# Altium footprint library Pcb_Library.PcbLib: 28 footprints (part 1 of 2)
Each footprint in its own frame and in the unit in brackets; x right, y up, seen from the top. Pads: shape width x height; smd on the part's side, far side on the other; paste and mask are expansions set on the pad; w line width, h text height; cw(c..) or ccw(c..) is an arc to the next point about the centre after c.
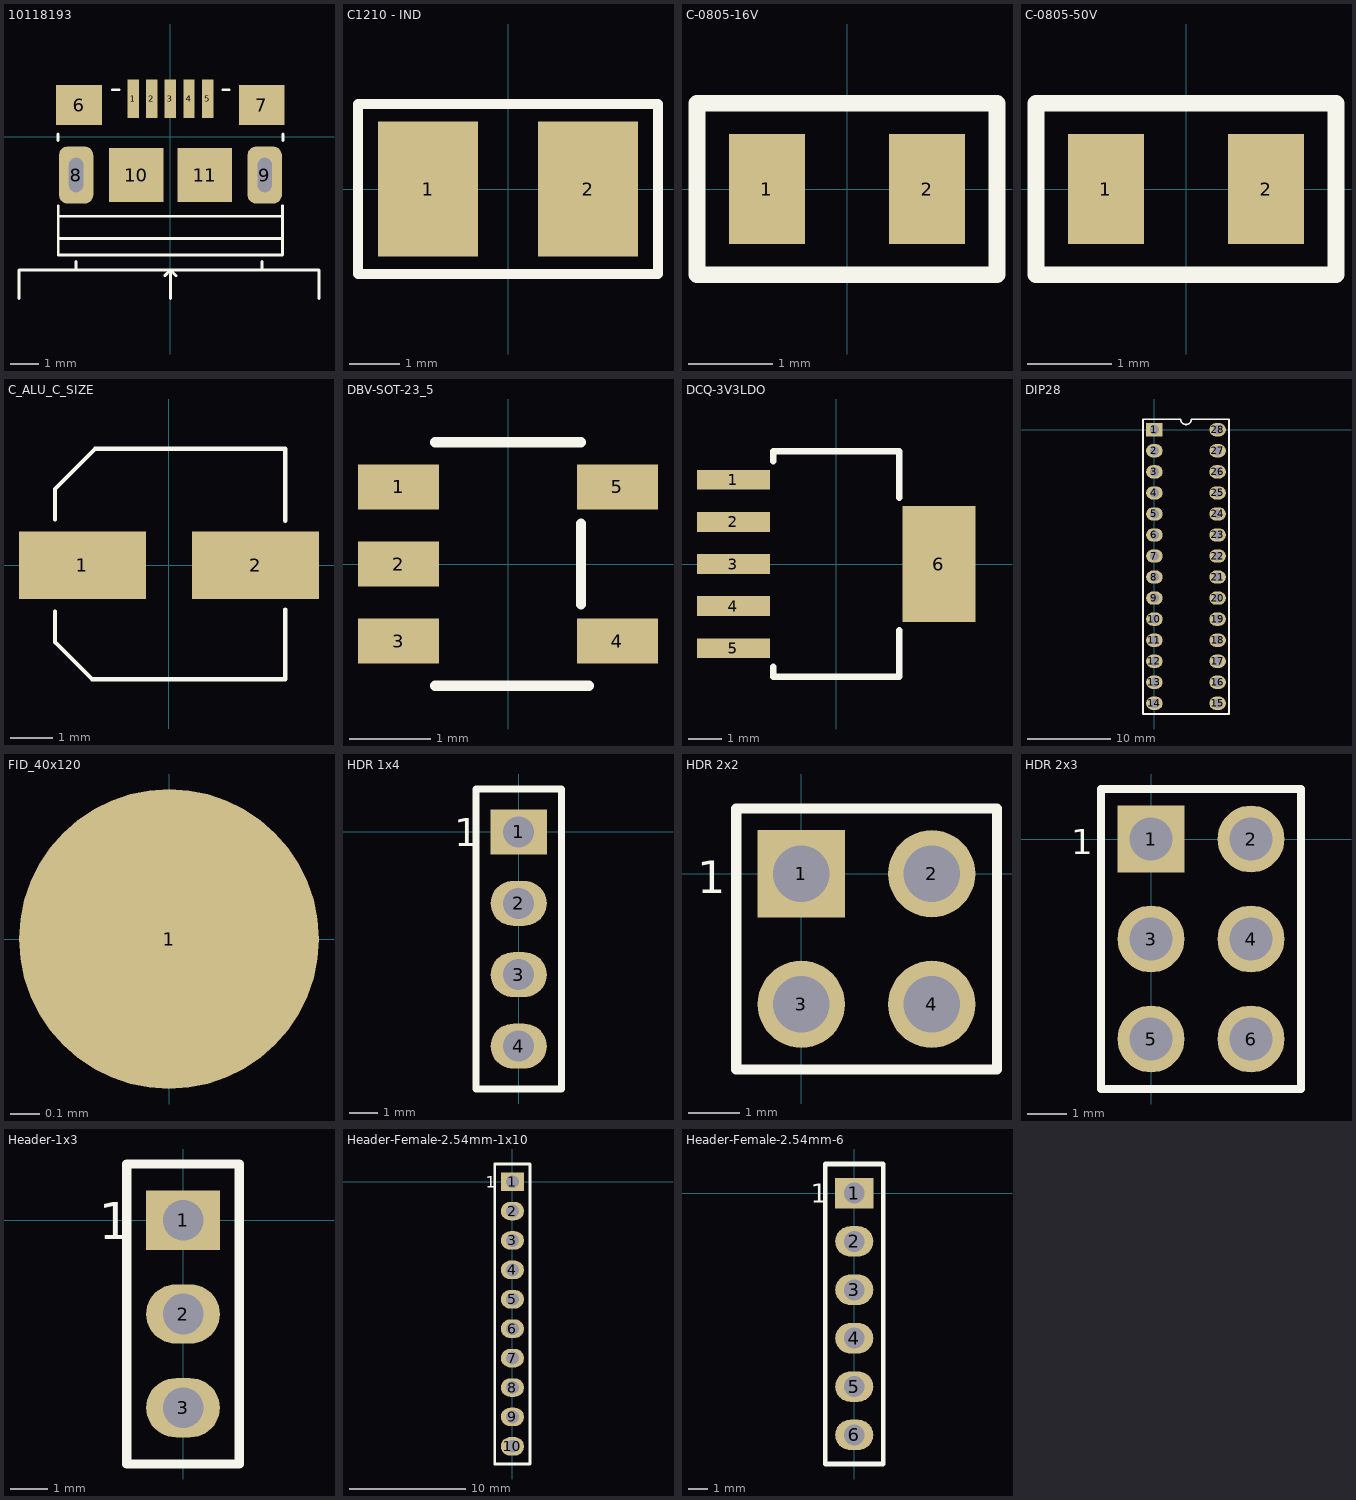
[diagram p0: the footprints below, top view; thin cyan lines are the x and y axes]

## 28-DIP_7.62mm_Socket [mm]
3D body "a_28-lc_7-t.stp": height 4, standoff -4.25, extent -1.38,-34.36 8.78,1.2

## 10118193 [mm]
pads (11):
  rect 0.4x1.35 smd mask+0.05: 1(-1.3,1.338) 2(-0.65,1.338) 3(0,1.338) 4(0.65,1.338) 5(1.3,1.338)
  rect 1.6x1.4 smd: 6(-3.2,1.112) 7(3.2,1.112)
  rrect50% 1.2x2 hole 0.5 slot 1.2 at 90 deg mask+0.05: 8(-3.3,-1.338) 9(3.3,-1.338)
  rect 1.9x1.9 smd: 10(-1.2,-1.338) 11(1.2,-1.338)
Top Overlay:
  lines w0.1: -5.3,-5.663 -5.3,-4.663 5.2,-4.663 5.2,-5.663 ; -3.936,-0.129 -3.936,0.1 ; -3.925,-2.412 -3.925,-4.137 3.925,-4.137 3.925,-2.412 ; -3.916,-2.777 3.907,-2.777 ; -3.9,-3.562 3.9,-3.562 ; -3.3,-4.663 -3.3,-4.362 ; -2.032,1.651 -1.803,1.651 ; -0.2,-4.862 0,-4.663 ; 0,-5.663 0,-4.663 ; 0.2,-4.862 0,-4.663 ; 1.829,1.651 2.057,1.651 ; 3.2,-4.663 3.2,-4.362 ; 3.938,-0.129 3.938,0.1
3D body "10118193-0001lfc.stp": height 2.88, standoff -0.92, extent -3.928,-4.146 3.928,1.637

## C1210 - IND [mm]
pads (2):
  rect 2x2.7 smd: 1(-1.6,0) 2(1.6,0)
Top Overlay:
  lines w0.2: -3,-1.7 3,-1.7 3,1.7 -3,1.7 -3,-1.7
3D body: height 2.7, standoff 0, extent -1.6,-1.25 -1.3,1.25
3D body: height 2.7, standoff 0, extent 1.3,-1.25 1.6,1.25
3D body: height 2.7, standoff 0, extent -1.3,-1.25 1.3,1.25

## C-0805-16V [mm]
pads (2):
  rect 0.9x1.3 smd: 1(-0.95,0) 2(0.95,0)
Top Overlay:
  lines w0.2: -1.778,-1.016 -1.778,1.016 1.778,1.016 1.778,-1.016 -1.778,-1.016
3D body "User Library-Capacitor-0805.step": height 0.8, standoff 0, extent -0.8,-0.479 0.8,0.381

## C-0805-50V [mm]
pads (2):
  rect 0.9x1.3 smd: 1(-0.95,0) 2(0.95,0)
Top Overlay:
  lines w0.2: -1.778,-1.016 -1.778,1.016 1.778,1.016 1.778,-1.016 -1.778,-1.016
3D body "User Library-Capacitor-0805.step": height 1.1, standoff 0.3, extent -0.8,-0.479 0.8,0.381
3D body "User Library-Capacitor-0805.step": height 0.8, standoff 0, extent -0.8,-0.479 0.8,0.381

## C_ALU_C_SIZE [mm]
pads (2):
  rect 3x1.6 smd: 1(-2.05,0) 2(2.05,0)
Top Overlay:
  lines w0.1: -2.7,-1.1 -2.7,-1.825 -1.825,-2.7 -1.775,-2.7 ; -2.7,1.075 -2.7,1.8 -1.75,2.75 2.75,2.75 2.75,1.05 ; -1.75,-2.7 2.75,-2.7 2.75,-1.05
3D body "User Library-capacitor size C.step": height 5.42, standoff 0.01, extent -2.95,-2.65 2.95,2.65

## DBV-SOT-23_5 [mm]
pads (5):
  rect 1x0.55 smd: 1(-1.35,0.95) 2(-1.35,0) 3(-1.35,-0.95) 4(1.35,-0.95) 5(1.35,0.95)
Top Overlay:
  lines w0.127: -0.9,-1.5 1,-1.5 ; -0.9,1.5 0.9,1.5 ; 0.9,-0.5 0.9,0.5
3D body "User Library-DBV.step": height 1.6, standoff -0.03, extent -1.514,-1.525 1.514,1.525

## DCQ-3V3LDO [mm]
pads (6):
  rect 2.2x0.6 smd: 1(-3.1,2.54) 2(-3.1,1.27) 3(-3.1,0) 4(-3.1,-1.27) 5(-3.1,-2.54)
  rect 2.2x3.5 smd: 6(3.1,0)
Top Overlay:
  lines w0.2: -1.9,-3.1 -1.9,-3.4 1.9,-3.4 1.9,-2 ; -1.9,3.1 -1.9,3.4 1.9,3.4 1.9,2
3D body "User Library-TPS73701DCQ.step": height 1.71, standoff -0.09, extent -3.63,-3.275 3.63,3.275

## DIP28 [mm]
pads (28):
  rect 2x1.6 hole 1.1: 1(0,0)
  oval 2x1.6 hole 1.1: 2(0,-2.54) 3(0,-5.08) 4(0,-7.62) 5(0,-10.16) 6(0,-12.7) 7(0,-15.24) 8(0,-17.78) 9(0,-20.32) 10(0,-22.86) 11(0,-25.4) 12(0,-27.94) 13(0,-30.48) 14(0,-33.02) 15(7.62,-33.02) 16(7.62,-30.48) 17(7.62,-27.94) 18(7.62,-25.4) 19(7.62,-22.86) 20(7.62,-20.32) 21(7.62,-17.78) 22(7.62,-15.24) 23(7.62,-12.7) 24(7.62,-10.16) 25(7.62,-7.62) 26(7.62,-5.08) 27(7.62,-2.54) 28(7.62,0)
Top Overlay:
  lines w0.2: -1.39,-34.31 9.01,-34.31 9.01,1.27 4.445,1.27 cw(c3.81,1.27) 3.175,1.27 -1.39,1.27 -1.39,-34.31
3D body "User Library-28 pin dip-1.step": height 4.65, standoff -1.57, extent -0.027,-34.51 7.847,1.431

## FID_40x120 [mil]
pads (1):
  round 40 smd paste-40 mask+40: 1(0,0)

## HDR 1x4 [mm]
pads (4):
  rect 2x1.6 hole 1.1: 1(0,0)
  oval 2x1.6 hole 1.1: 2(0,-2.54) 3(0,-5.08) 4(0,-7.62)
Top Overlay:
  lines w0.254: -1.524,-9.144 -1.524,1.524 1.524,1.524 1.524,-9.144 -1.524,-9.144
  text "1" at -2.286,-0.508 h1
3D body "User Library-1x4 TH Pitch 2_54mm.STEP": height 9.21, standoff -3.49, extent -1.27,-8.89 1.27,1.27

## HDR 2x2 [mm]
pads (4):
  rect 1.7x1.7 hole 1.1: 1(0,0)
  round 1.7 hole 1.1: 2(2.54,0) 3(0,-2.54) 4(2.54,-2.54)
Top Overlay:
  lines w0.2: -1.27,-3.81 -1.27,1.27 3.81,1.27 3.81,-3.81 -1.27,-3.81
  text "1" at -2.032,-0.381 h0.64
3D body "User Library-2x2 TH Pitch 2_54mm.STEP": height 6.61, standoff -3.39, extent -1.23,-3.81 3.77,1.27

## HDR 2x3 [mm]
pads (6):
  rect 1.7x1.7 hole 1.1: 1(0,0)
  round 1.7 hole 1.1: 2(2.54,0) 3(0,-2.54) 4(2.54,-2.54) 5(0,-5.08) 6(2.54,-5.08)
Top Overlay:
  lines w0.2: -1.27,-6.35 -1.27,1.27 3.81,1.27 3.81,-6.35 -1.27,-6.35
  text "1" at -2.032,-0.381 h0.64
3D body "User Library-2x3 TH Pitch 2_54mm.STEP": height 9.21, standoff -3.49, extent -1.27,-6.35 3.81,1.27

## Header-1x3 [mm]
pads (3):
  rect 2x1.6 hole 1.1: 1(0,0)
  oval 2x1.6 hole 1.1: 2(0,-2.54) 3(0,-5.08)
Top Overlay:
  lines w0.254: -1.524,-6.604 -1.524,1.524 1.524,1.524 1.524,-6.604 -1.524,-6.604
  text "1" at -2.286,-0.508 h1
3D body "User Library-1x3 TH Pitch 2_54mm.STEP": height 9.21, standoff -3.49, extent -1.27,-6.35 1.27,1.27

## Header-Female-2.54mm-1x10 [mm]
pads (10):
  rect 2x1.6 hole 1.1: 1(0,0)
  oval 2x1.6 hole 1.1: 2(0,-2.54) 3(0,-5.08) 4(0,-7.62) 5(0,-10.16) 6(0,-12.7) 7(0,-15.24) 8(0,-17.78) 9(0,-20.32) 10(0,-22.86)
Top Overlay:
  lines w0.254: -1.524,-24.384 -1.524,-23.368 -1.524,1.524 1.524,1.524 1.524,-24.384 -1.524,-24.384
  text "1" at -2.286,-0.508 h1
3D body "User Library-Header-10_p2-54.step": height 8.01, standoff -3.49, extent -1.27,-24.384 1.27,1.516

## Header-Female-2.54mm-6 [mm]
pads (6):
  rect 2x1.6 hole 1.1: 1(0,0)
  oval 2x1.6 hole 1.1: 2(0,-2.54) 3(0,-5.08) 4(0,-7.62) 5(0,-10.16) 6(0,-12.7)
Top Overlay:
  lines w0.254: -1.524,-14.224 -1.524,1.524 1.524,1.524 1.524,-14.224 0.762,-14.224 -0.762,-14.224 -1.524,-14.224
  text "1" at -2.286,-0.508 h1
3D body "User Library-Header-6_p2-54.step": height 8.01, standoff -3.49, extent -1.27,-14.216 1.27,1.524